# Altium integrated library Linear Technology PMIC-Switching Reg LT1074-LT8705.IntLib: 2252 symbols (part 28 of 124)
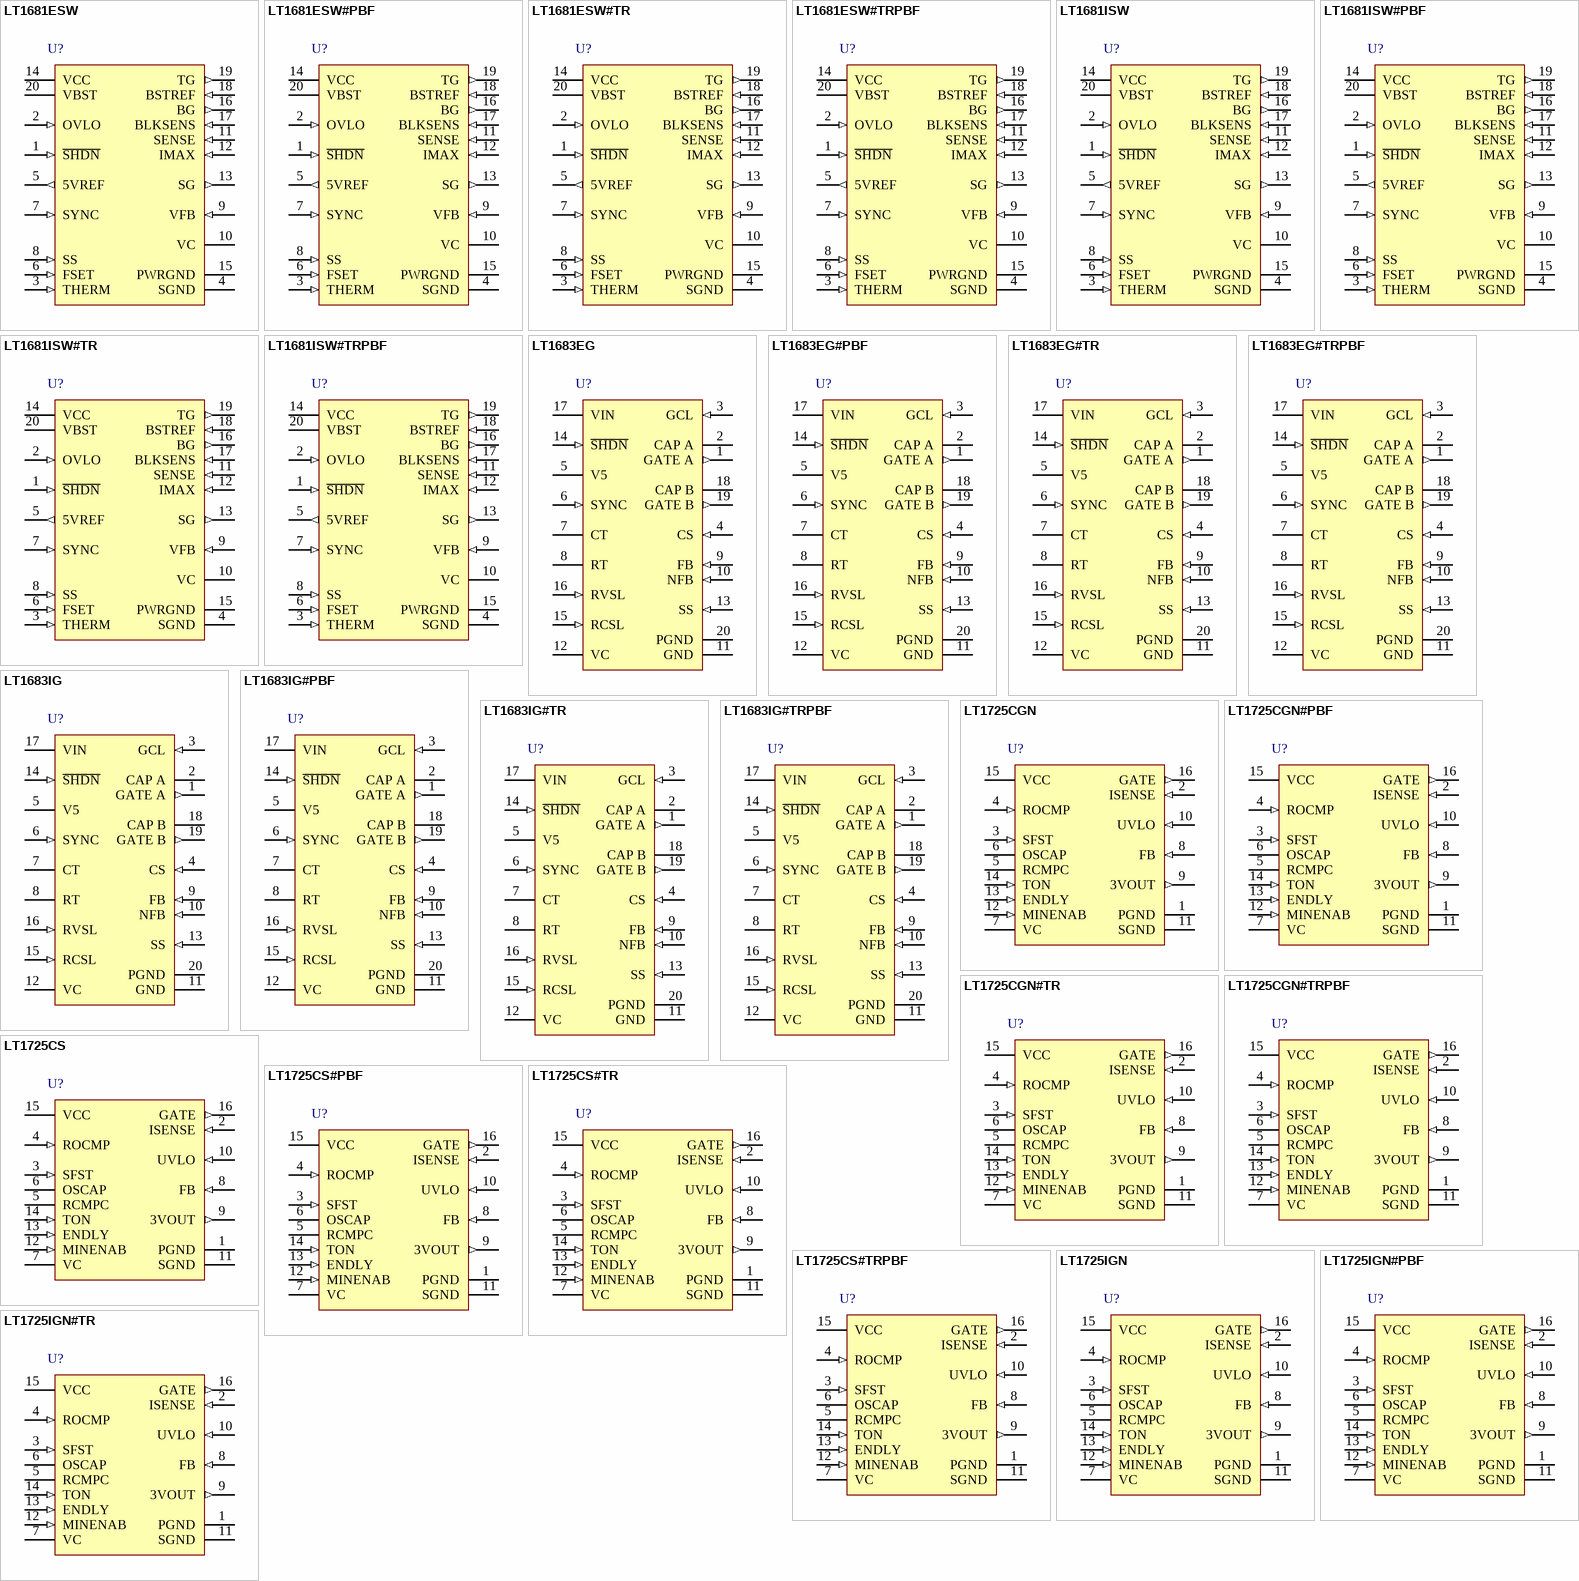
[diagram p98: symbols LT1681ESW to LT1725IGN#TR]

## LT1681ESW#PBF
designator U?
Dual Transistor Synchronous Forward Controller, 20-pin SOIC (SW-20), -40 to 85 degC, Pb-Free; Manufacturer: Linear Technology; PartNumber: LT1681ESW#PBF; Number of Outputs: 1; PackageReference: SW-20; PackageDescription: 20-Pin Plastic Small Outline, Body 12.80 x 7.49 mm, Pitch 1.27 mm; Supplier 1: Digi-Key; Supplier Part Number 1: LT1681ESW#PBF-ND; RoHS: TRUE
footprint LT-SW-20_N (SOIC, 20-Leads, Body 12.8x7.49mm, Pitch 1.27mm, IPC Medium Density)
footprint LT-SW-20_L (SOIC, 20-Leads, Body 12.8x7.49mm, Pitch 1.27mm, IPC High Density)
footprint LT-SW-20_M (SOIC, 20-Leads, Body 12.8x7.49mm, Pitch 1.27mm, IPC Low Density)
pins: 1 ~{SHDN} (in) "Shutdown Pin. Pin voltages exceeding positive-going threshold of 1.25V enables the LT1681. 150mV of input hysteresis resists mode switching instability. The S\H\D\N\ pin can be controlled by either a logic-level input or (See Datasheet)", 2 OVLO (in) "Overvoltage Shutdown Sense. Typically connected to input supply through a resistor divider. If pin voltage exceeds 1.25V, the LT1681 switching function is disabled to protect boosted circuitry from exceeding absolute maximum (See Datasheet)", 3 THERM (in) "System Thermal Shutdown. Auxiliary shutdown pin that is typically used for system thermal protection. If pin voltage exceeds 1.25V, the LT1681 switching function is disabled. 40mV of input hysteresis resists mode switching (See Datasheet)", 4 SGND (power) "Signal Ground Reference. Careful board layout techniques must be used to prevent corruption of the signal ground reference. High current switching paths must be oriented on the converter ground plane such that currents (See Datasheet)", 5 5VREF (out) "5V Local Reference. Allows connection of external loads up to 20mA DC. Typically bypassed with 1uF ceramic capacitor to SGND. Reference output is current limit protected to a typical value of 45mA. If the load on the 5V (See Datasheet)", 6 FSET (in) "Oscillator Timing Pin. Connect a resistor (RFSET) from the 5VREF pin to this pin and a capacitor (CFSET) from this pin to ground.", 7 SYNC (in) "Oscillator Synchronization Input Pin with TTL-Level Compatible Input. The SYNC input signal (at the desired synchronized operating frequency) controls both the internal oscillator (running at twice the SYNC frequency) and (See Datasheet)", 8 SS (in) "Soft-Start. Connect a capacitor (CSS) from this pin to ground. The output voltage of the LT1681 error amplifier corresponds to the peak current sense amplifier output detected before resetting the switch outputs. The (See Datasheet)", 9 VFB (in) "Error Amplifier Inverting Input. Typically connected to a resistor divider from the output and compensation components to the VC pin. The VFB pin is the converter output voltage feedback node. Input bias current of ~50nA (See Datasheet)", 10 VC "Error Amplifier Output. The LT1681 error amplifier is a low impedance output inverting gain stage. The amplifier has ample current source capability to allow easy integration of isolation optocouplers that require bias (See Datasheet)", 11 SENSE (in) "Current Sense Amplifier (CSA) Noninverting Input. Current is monitored via a ground referenced current sense resistor, typically in series with the source of the bottom-side switch FET. Internal limit circuitry provides for (See Datasheet)", 12 IMAX (in) "Primary Current Runaway Protection. The IMAX pin is used to detect primary-side switch currents and shuts down the primary switches if a current runaway condition is detected. The IMAX function is not disabled during the (See Datasheet)", 13 SG (out) "Synchronous Switch Output Driver. This pin can be connected directly to the gate of the synchronous switch if small FETs are used (CGATE < 5000pF), however, the use of a gate drive buffer is recommended for peak efficiencies.(See Datasheet)", 14 VCC (power) "IC Local Power Supply Input. Bypass with a capacitor at least 10 times greater than C5VREF to PGND. The LT1681 incorporates undervoltage lockout that disables switching functions if VCC is below 8.4V. The LT1681 supports (See Datasheet)", 15 PWRGND (power) "Output Driver Ground Reference. Connect through low impedance trace to VIN decoupling capacitor.", 16 BG (out) "Bottom-Side Primary Switch/Forward Switch Output Driver. Pin can be connected directly to gate of primary bottom-side and forward switches if small FETs are used (CGATE total < 5000pF), however, the use of a gate drive (See Datasheet)", 17 BLKSENS (in) "Blanking Sense Input. The current sense function (via SENSE pin) is disabled while the BLKSENS pin is below 5V. BLKSENS is typically connected to the gate of the bottom-side primary switch MOSFET.", 18 BSTREF (in) "VBST Supply Reference. Typically connects to source of topside external power FET switch.", 19 TG (out) "Topside (Boosted) Primary Output Driver. Pin can be connected directly to gate of primary topside switch if small FETs are used (CGATE < 5000pF), however, the use of a gate drive buffer is recommended for peak efficiencies.", 20 VBST (power) "Topside Primary Driver Bootstrapped Supply. This ¡°boosted¡± supply rail is referenced to the BSTREF pin."

## LT1681ESW#TR
designator U?
Dual Transistor Synchronous Forward Controller, 20-pin SOIC (SW-20), -40 to 85 degC, Tape and Reel; Manufacturer: Linear Technology; PartNumber: LT1681ESW#TR; Number of Outputs: 1; PackageReference: SW-20; PackageDescription: 20-Pin Plastic Small Outline, Body 12.80 x 7.49 mm, Pitch 1.27 mm; Supplier 1: Digi-Key; Supplier Part Number 1: LT1681ESWTR-ND; RoHS: FALSE
footprint LT-SW-20_N (SOIC, 20-Leads, Body 12.8x7.49mm, Pitch 1.27mm, IPC Medium Density)
footprint LT-SW-20_L (SOIC, 20-Leads, Body 12.8x7.49mm, Pitch 1.27mm, IPC High Density)
footprint LT-SW-20_M (SOIC, 20-Leads, Body 12.8x7.49mm, Pitch 1.27mm, IPC Low Density)
pins: 1 ~{SHDN} (in) "Shutdown Pin. Pin voltages exceeding positive-going threshold of 1.25V enables the LT1681. 150mV of input hysteresis resists mode switching instability. The S\H\D\N\ pin can be controlled by either a logic-level input or (See Datasheet)", 2 OVLO (in) "Overvoltage Shutdown Sense. Typically connected to input supply through a resistor divider. If pin voltage exceeds 1.25V, the LT1681 switching function is disabled to protect boosted circuitry from exceeding absolute maximum (See Datasheet)", 3 THERM (in) "System Thermal Shutdown. Auxiliary shutdown pin that is typically used for system thermal protection. If pin voltage exceeds 1.25V, the LT1681 switching function is disabled. 40mV of input hysteresis resists mode switching (See Datasheet)", 4 SGND (power) "Signal Ground Reference. Careful board layout techniques must be used to prevent corruption of the signal ground reference. High current switching paths must be oriented on the converter ground plane such that currents (See Datasheet)", 5 5VREF (out) "5V Local Reference. Allows connection of external loads up to 20mA DC. Typically bypassed with 1uF ceramic capacitor to SGND. Reference output is current limit protected to a typical value of 45mA. If the load on the 5V (See Datasheet)", 6 FSET (in) "Oscillator Timing Pin. Connect a resistor (RFSET) from the 5VREF pin to this pin and a capacitor (CFSET) from this pin to ground.", 7 SYNC (in) "Oscillator Synchronization Input Pin with TTL-Level Compatible Input. The SYNC input signal (at the desired synchronized operating frequency) controls both the internal oscillator (running at twice the SYNC frequency) and (See Datasheet)", 8 SS (in) "Soft-Start. Connect a capacitor (CSS) from this pin to ground. The output voltage of the LT1681 error amplifier corresponds to the peak current sense amplifier output detected before resetting the switch outputs. The (See Datasheet)", 9 VFB (in) "Error Amplifier Inverting Input. Typically connected to a resistor divider from the output and compensation components to the VC pin. The VFB pin is the converter output voltage feedback node. Input bias current of ~50nA (See Datasheet)", 10 VC "Error Amplifier Output. The LT1681 error amplifier is a low impedance output inverting gain stage. The amplifier has ample current source capability to allow easy integration of isolation optocouplers that require bias (See Datasheet)", 11 SENSE (in) "Current Sense Amplifier (CSA) Noninverting Input. Current is monitored via a ground referenced current sense resistor, typically in series with the source of the bottom-side switch FET. Internal limit circuitry provides for (See Datasheet)", 12 IMAX (in) "Primary Current Runaway Protection. The IMAX pin is used to detect primary-side switch currents and shuts down the primary switches if a current runaway condition is detected. The IMAX function is not disabled during the (See Datasheet)", 13 SG (out) "Synchronous Switch Output Driver. This pin can be connected directly to the gate of the synchronous switch if small FETs are used (CGATE < 5000pF), however, the use of a gate drive buffer is recommended for peak efficiencies.(See Datasheet)", 14 VCC (power) "IC Local Power Supply Input. Bypass with a capacitor at least 10 times greater than C5VREF to PGND. The LT1681 incorporates undervoltage lockout that disables switching functions if VCC is below 8.4V. The LT1681 supports (See Datasheet)", 15 PWRGND (power) "Output Driver Ground Reference. Connect through low impedance trace to VIN decoupling capacitor.", 16 BG (out) "Bottom-Side Primary Switch/Forward Switch Output Driver. Pin can be connected directly to gate of primary bottom-side and forward switches if small FETs are used (CGATE total < 5000pF), however, the use of a gate drive (See Datasheet)", 17 BLKSENS (in) "Blanking Sense Input. The current sense function (via SENSE pin) is disabled while the BLKSENS pin is below 5V. BLKSENS is typically connected to the gate of the bottom-side primary switch MOSFET.", 18 BSTREF (in) "VBST Supply Reference. Typically connects to source of topside external power FET switch.", 19 TG (out) "Topside (Boosted) Primary Output Driver. Pin can be connected directly to gate of primary topside switch if small FETs are used (CGATE < 5000pF), however, the use of a gate drive buffer is recommended for peak efficiencies.", 20 VBST (power) "Topside Primary Driver Bootstrapped Supply. This ¡°boosted¡± supply rail is referenced to the BSTREF pin."

## LT1681ESW#TRPBF
designator U?
Dual Transistor Synchronous Forward Controller, 20-pin SOIC (SW-20), -40 to 85 degC, Pb-Free, Tape and Reel; Manufacturer: Linear Technology; PartNumber: LT1681ESW#TRPBF; Number of Outputs: 1; PackageReference: SW-20; PackageDescription: 20-Pin Plastic Small Outline, Body 12.80 x 7.49 mm, Pitch 1.27 mm; Supplier 1: Digi-Key; Supplier Part Number 1: LT1681ESW#TRPBF-ND; RoHS: TRUE
footprint LT-SW-20_N (SOIC, 20-Leads, Body 12.8x7.49mm, Pitch 1.27mm, IPC Medium Density)
footprint LT-SW-20_L (SOIC, 20-Leads, Body 12.8x7.49mm, Pitch 1.27mm, IPC High Density)
footprint LT-SW-20_M (SOIC, 20-Leads, Body 12.8x7.49mm, Pitch 1.27mm, IPC Low Density)
pins: 1 ~{SHDN} (in) "Shutdown Pin. Pin voltages exceeding positive-going threshold of 1.25V enables the LT1681. 150mV of input hysteresis resists mode switching instability. The S\H\D\N\ pin can be controlled by either a logic-level input or (See Datasheet)", 2 OVLO (in) "Overvoltage Shutdown Sense. Typically connected to input supply through a resistor divider. If pin voltage exceeds 1.25V, the LT1681 switching function is disabled to protect boosted circuitry from exceeding absolute maximum (See Datasheet)", 3 THERM (in) "System Thermal Shutdown. Auxiliary shutdown pin that is typically used for system thermal protection. If pin voltage exceeds 1.25V, the LT1681 switching function is disabled. 40mV of input hysteresis resists mode switching (See Datasheet)", 4 SGND (power) "Signal Ground Reference. Careful board layout techniques must be used to prevent corruption of the signal ground reference. High current switching paths must be oriented on the converter ground plane such that currents (See Datasheet)", 5 5VREF (out) "5V Local Reference. Allows connection of external loads up to 20mA DC. Typically bypassed with 1uF ceramic capacitor to SGND. Reference output is current limit protected to a typical value of 45mA. If the load on the 5V (See Datasheet)", 6 FSET (in) "Oscillator Timing Pin. Connect a resistor (RFSET) from the 5VREF pin to this pin and a capacitor (CFSET) from this pin to ground.", 7 SYNC (in) "Oscillator Synchronization Input Pin with TTL-Level Compatible Input. The SYNC input signal (at the desired synchronized operating frequency) controls both the internal oscillator (running at twice the SYNC frequency) and (See Datasheet)", 8 SS (in) "Soft-Start. Connect a capacitor (CSS) from this pin to ground. The output voltage of the LT1681 error amplifier corresponds to the peak current sense amplifier output detected before resetting the switch outputs. The (See Datasheet)", 9 VFB (in) "Error Amplifier Inverting Input. Typically connected to a resistor divider from the output and compensation components to the VC pin. The VFB pin is the converter output voltage feedback node. Input bias current of ~50nA (See Datasheet)", 10 VC "Error Amplifier Output. The LT1681 error amplifier is a low impedance output inverting gain stage. The amplifier has ample current source capability to allow easy integration of isolation optocouplers that require bias (See Datasheet)", 11 SENSE (in) "Current Sense Amplifier (CSA) Noninverting Input. Current is monitored via a ground referenced current sense resistor, typically in series with the source of the bottom-side switch FET. Internal limit circuitry provides for (See Datasheet)", 12 IMAX (in) "Primary Current Runaway Protection. The IMAX pin is used to detect primary-side switch currents and shuts down the primary switches if a current runaway condition is detected. The IMAX function is not disabled during the (See Datasheet)", 13 SG (out) "Synchronous Switch Output Driver. This pin can be connected directly to the gate of the synchronous switch if small FETs are used (CGATE < 5000pF), however, the use of a gate drive buffer is recommended for peak efficiencies.(See Datasheet)", 14 VCC (power) "IC Local Power Supply Input. Bypass with a capacitor at least 10 times greater than C5VREF to PGND. The LT1681 incorporates undervoltage lockout that disables switching functions if VCC is below 8.4V. The LT1681 supports (See Datasheet)", 15 PWRGND (power) "Output Driver Ground Reference. Connect through low impedance trace to VIN decoupling capacitor.", 16 BG (out) "Bottom-Side Primary Switch/Forward Switch Output Driver. Pin can be connected directly to gate of primary bottom-side and forward switches if small FETs are used (CGATE total < 5000pF), however, the use of a gate drive (See Datasheet)", 17 BLKSENS (in) "Blanking Sense Input. The current sense function (via SENSE pin) is disabled while the BLKSENS pin is below 5V. BLKSENS is typically connected to the gate of the bottom-side primary switch MOSFET.", 18 BSTREF (in) "VBST Supply Reference. Typically connects to source of topside external power FET switch.", 19 TG (out) "Topside (Boosted) Primary Output Driver. Pin can be connected directly to gate of primary topside switch if small FETs are used (CGATE < 5000pF), however, the use of a gate drive buffer is recommended for peak efficiencies.", 20 VBST (power) "Topside Primary Driver Bootstrapped Supply. This ¡°boosted¡± supply rail is referenced to the BSTREF pin."

## LT1681ISW
designator U?
Dual Transistor Synchronous Forward Controller, 20-pin SOIC (SW-20), -40 to 85 degC; Manufacturer: Linear Technology; PartNumber: LT1681ISW; Number of Outputs: 1; PackageReference: SW-20; PackageDescription: 20-Pin Plastic Small Outline, Body 12.80 x 7.49 mm, Pitch 1.27 mm; Supplier 1: Digi-Key; Supplier Part Number 1: LT1681ISW-ND; RoHS: FALSE
footprint LT-SW-20_N (SOIC, 20-Leads, Body 12.8x7.49mm, Pitch 1.27mm, IPC Medium Density)
footprint LT-SW-20_L (SOIC, 20-Leads, Body 12.8x7.49mm, Pitch 1.27mm, IPC High Density)
footprint LT-SW-20_M (SOIC, 20-Leads, Body 12.8x7.49mm, Pitch 1.27mm, IPC Low Density)
pins: 1 ~{SHDN} (in) "Shutdown Pin. Pin voltages exceeding positive-going threshold of 1.25V enables the LT1681. 150mV of input hysteresis resists mode switching instability. The S\H\D\N\ pin can be controlled by either a logic-level input or (See Datasheet)", 2 OVLO (in) "Overvoltage Shutdown Sense. Typically connected to input supply through a resistor divider. If pin voltage exceeds 1.25V, the LT1681 switching function is disabled to protect boosted circuitry from exceeding absolute maximum (See Datasheet)", 3 THERM (in) "System Thermal Shutdown. Auxiliary shutdown pin that is typically used for system thermal protection. If pin voltage exceeds 1.25V, the LT1681 switching function is disabled. 40mV of input hysteresis resists mode switching (See Datasheet)", 4 SGND (power) "Signal Ground Reference. Careful board layout techniques must be used to prevent corruption of the signal ground reference. High current switching paths must be oriented on the converter ground plane such that currents (See Datasheet)", 5 5VREF (out) "5V Local Reference. Allows connection of external loads up to 20mA DC. Typically bypassed with 1uF ceramic capacitor to SGND. Reference output is current limit protected to a typical value of 45mA. If the load on the 5V (See Datasheet)", 6 FSET (in) "Oscillator Timing Pin. Connect a resistor (RFSET) from the 5VREF pin to this pin and a capacitor (CFSET) from this pin to ground.", 7 SYNC (in) "Oscillator Synchronization Input Pin with TTL-Level Compatible Input. The SYNC input signal (at the desired synchronized operating frequency) controls both the internal oscillator (running at twice the SYNC frequency) and (See Datasheet)", 8 SS (in) "Soft-Start. Connect a capacitor (CSS) from this pin to ground. The output voltage of the LT1681 error amplifier corresponds to the peak current sense amplifier output detected before resetting the switch outputs. The (See Datasheet)", 9 VFB (in) "Error Amplifier Inverting Input. Typically connected to a resistor divider from the output and compensation components to the VC pin. The VFB pin is the converter output voltage feedback node. Input bias current of ~50nA (See Datasheet)", 10 VC "Error Amplifier Output. The LT1681 error amplifier is a low impedance output inverting gain stage. The amplifier has ample current source capability to allow easy integration of isolation optocouplers that require bias (See Datasheet)", 11 SENSE (in) "Current Sense Amplifier (CSA) Noninverting Input. Current is monitored via a ground referenced current sense resistor, typically in series with the source of the bottom-side switch FET. Internal limit circuitry provides for (See Datasheet)", 12 IMAX (in) "Primary Current Runaway Protection. The IMAX pin is used to detect primary-side switch currents and shuts down the primary switches if a current runaway condition is detected. The IMAX function is not disabled during the (See Datasheet)", 13 SG (out) "Synchronous Switch Output Driver. This pin can be connected directly to the gate of the synchronous switch if small FETs are used (CGATE < 5000pF), however, the use of a gate drive buffer is recommended for peak efficiencies.(See Datasheet)", 14 VCC (power) "IC Local Power Supply Input. Bypass with a capacitor at least 10 times greater than C5VREF to PGND. The LT1681 incorporates undervoltage lockout that disables switching functions if VCC is below 8.4V. The LT1681 supports (See Datasheet)", 15 PWRGND (power) "Output Driver Ground Reference. Connect through low impedance trace to VIN decoupling capacitor.", 16 BG (out) "Bottom-Side Primary Switch/Forward Switch Output Driver. Pin can be connected directly to gate of primary bottom-side and forward switches if small FETs are used (CGATE total < 5000pF), however, the use of a gate drive (See Datasheet)", 17 BLKSENS (in) "Blanking Sense Input. The current sense function (via SENSE pin) is disabled while the BLKSENS pin is below 5V. BLKSENS is typically connected to the gate of the bottom-side primary switch MOSFET.", 18 BSTREF (in) "VBST Supply Reference. Typically connects to source of topside external power FET switch.", 19 TG (out) "Topside (Boosted) Primary Output Driver. Pin can be connected directly to gate of primary topside switch if small FETs are used (CGATE < 5000pF), however, the use of a gate drive buffer is recommended for peak efficiencies.", 20 VBST (power) "Topside Primary Driver Bootstrapped Supply. This ¡°boosted¡± supply rail is referenced to the BSTREF pin."

## LT1681ISW#PBF
designator U?
Dual Transistor Synchronous Forward Controller, 20-pin SOIC (SW-20), -40 to 85 degC, Pb-Free; Manufacturer: Linear Technology; PartNumber: LT1681ISW#PBF; Number of Outputs: 1; PackageReference: SW-20; PackageDescription: 20-Pin Plastic Small Outline, Body 12.80 x 7.49 mm, Pitch 1.27 mm; Supplier 1: Digi-Key; Supplier Part Number 1: LT1681ISW#PBF-ND; RoHS: TRUE
footprint LT-SW-20_N (SOIC, 20-Leads, Body 12.8x7.49mm, Pitch 1.27mm, IPC Medium Density)
footprint LT-SW-20_L (SOIC, 20-Leads, Body 12.8x7.49mm, Pitch 1.27mm, IPC High Density)
footprint LT-SW-20_M (SOIC, 20-Leads, Body 12.8x7.49mm, Pitch 1.27mm, IPC Low Density)
pins: 1 ~{SHDN} (in) "Shutdown Pin. Pin voltages exceeding positive-going threshold of 1.25V enables the LT1681. 150mV of input hysteresis resists mode switching instability. The S\H\D\N\ pin can be controlled by either a logic-level input or (See Datasheet)", 2 OVLO (in) "Overvoltage Shutdown Sense. Typically connected to input supply through a resistor divider. If pin voltage exceeds 1.25V, the LT1681 switching function is disabled to protect boosted circuitry from exceeding absolute maximum (See Datasheet)", 3 THERM (in) "System Thermal Shutdown. Auxiliary shutdown pin that is typically used for system thermal protection. If pin voltage exceeds 1.25V, the LT1681 switching function is disabled. 40mV of input hysteresis resists mode switching (See Datasheet)", 4 SGND (power) "Signal Ground Reference. Careful board layout techniques must be used to prevent corruption of the signal ground reference. High current switching paths must be oriented on the converter ground plane such that currents (See Datasheet)", 5 5VREF (out) "5V Local Reference. Allows connection of external loads up to 20mA DC. Typically bypassed with 1uF ceramic capacitor to SGND. Reference output is current limit protected to a typical value of 45mA. If the load on the 5V (See Datasheet)", 6 FSET (in) "Oscillator Timing Pin. Connect a resistor (RFSET) from the 5VREF pin to this pin and a capacitor (CFSET) from this pin to ground.", 7 SYNC (in) "Oscillator Synchronization Input Pin with TTL-Level Compatible Input. The SYNC input signal (at the desired synchronized operating frequency) controls both the internal oscillator (running at twice the SYNC frequency) and (See Datasheet)", 8 SS (in) "Soft-Start. Connect a capacitor (CSS) from this pin to ground. The output voltage of the LT1681 error amplifier corresponds to the peak current sense amplifier output detected before resetting the switch outputs. The (See Datasheet)", 9 VFB (in) "Error Amplifier Inverting Input. Typically connected to a resistor divider from the output and compensation components to the VC pin. The VFB pin is the converter output voltage feedback node. Input bias current of ~50nA (See Datasheet)", 10 VC "Error Amplifier Output. The LT1681 error amplifier is a low impedance output inverting gain stage. The amplifier has ample current source capability to allow easy integration of isolation optocouplers that require bias (See Datasheet)", 11 SENSE (in) "Current Sense Amplifier (CSA) Noninverting Input. Current is monitored via a ground referenced current sense resistor, typically in series with the source of the bottom-side switch FET. Internal limit circuitry provides for (See Datasheet)", 12 IMAX (in) "Primary Current Runaway Protection. The IMAX pin is used to detect primary-side switch currents and shuts down the primary switches if a current runaway condition is detected. The IMAX function is not disabled during the (See Datasheet)", 13 SG (out) "Synchronous Switch Output Driver. This pin can be connected directly to the gate of the synchronous switch if small FETs are used (CGATE < 5000pF), however, the use of a gate drive buffer is recommended for peak efficiencies.(See Datasheet)", 14 VCC (power) "IC Local Power Supply Input. Bypass with a capacitor at least 10 times greater than C5VREF to PGND. The LT1681 incorporates undervoltage lockout that disables switching functions if VCC is below 8.4V. The LT1681 supports (See Datasheet)", 15 PWRGND (power) "Output Driver Ground Reference. Connect through low impedance trace to VIN decoupling capacitor.", 16 BG (out) "Bottom-Side Primary Switch/Forward Switch Output Driver. Pin can be connected directly to gate of primary bottom-side and forward switches if small FETs are used (CGATE total < 5000pF), however, the use of a gate drive (See Datasheet)", 17 BLKSENS (in) "Blanking Sense Input. The current sense function (via SENSE pin) is disabled while the BLKSENS pin is below 5V. BLKSENS is typically connected to the gate of the bottom-side primary switch MOSFET.", 18 BSTREF (in) "VBST Supply Reference. Typically connects to source of topside external power FET switch.", 19 TG (out) "Topside (Boosted) Primary Output Driver. Pin can be connected directly to gate of primary topside switch if small FETs are used (CGATE < 5000pF), however, the use of a gate drive buffer is recommended for peak efficiencies.", 20 VBST (power) "Topside Primary Driver Bootstrapped Supply. This ¡°boosted¡± supply rail is referenced to the BSTREF pin."

## LT1681ISW#TR
designator U?
Dual Transistor Synchronous Forward Controller, 20-pin SOIC (SW-20), -40 to 85 degC, Tape and Reel; Manufacturer: Linear Technology; PartNumber: LT1681ISW#TR; Number of Outputs: 1; PackageReference: SW-20; PackageDescription: 20-Pin Plastic Small Outline, Body 12.80 x 7.49 mm, Pitch 1.27 mm; Supplier 1: Digi-Key; Supplier Part Number 1: LT1681ISWTR-ND; RoHS: FALSE
footprint LT-SW-20_N (SOIC, 20-Leads, Body 12.8x7.49mm, Pitch 1.27mm, IPC Medium Density)
footprint LT-SW-20_L (SOIC, 20-Leads, Body 12.8x7.49mm, Pitch 1.27mm, IPC High Density)
footprint LT-SW-20_M (SOIC, 20-Leads, Body 12.8x7.49mm, Pitch 1.27mm, IPC Low Density)
pins: 1 ~{SHDN} (in) "Shutdown Pin. Pin voltages exceeding positive-going threshold of 1.25V enables the LT1681. 150mV of input hysteresis resists mode switching instability. The S\H\D\N\ pin can be controlled by either a logic-level input or (See Datasheet)", 2 OVLO (in) "Overvoltage Shutdown Sense. Typically connected to input supply through a resistor divider. If pin voltage exceeds 1.25V, the LT1681 switching function is disabled to protect boosted circuitry from exceeding absolute maximum (See Datasheet)", 3 THERM (in) "System Thermal Shutdown. Auxiliary shutdown pin that is typically used for system thermal protection. If pin voltage exceeds 1.25V, the LT1681 switching function is disabled. 40mV of input hysteresis resists mode switching (See Datasheet)", 4 SGND (power) "Signal Ground Reference. Careful board layout techniques must be used to prevent corruption of the signal ground reference. High current switching paths must be oriented on the converter ground plane such that currents (See Datasheet)", 5 5VREF (out) "5V Local Reference. Allows connection of external loads up to 20mA DC. Typically bypassed with 1uF ceramic capacitor to SGND. Reference output is current limit protected to a typical value of 45mA. If the load on the 5V (See Datasheet)", 6 FSET (in) "Oscillator Timing Pin. Connect a resistor (RFSET) from the 5VREF pin to this pin and a capacitor (CFSET) from this pin to ground.", 7 SYNC (in) "Oscillator Synchronization Input Pin with TTL-Level Compatible Input. The SYNC input signal (at the desired synchronized operating frequency) controls both the internal oscillator (running at twice the SYNC frequency) and (See Datasheet)", 8 SS (in) "Soft-Start. Connect a capacitor (CSS) from this pin to ground. The output voltage of the LT1681 error amplifier corresponds to the peak current sense amplifier output detected before resetting the switch outputs. The (See Datasheet)", 9 VFB (in) "Error Amplifier Inverting Input. Typically connected to a resistor divider from the output and compensation components to the VC pin. The VFB pin is the converter output voltage feedback node. Input bias current of ~50nA (See Datasheet)", 10 VC "Error Amplifier Output. The LT1681 error amplifier is a low impedance output inverting gain stage. The amplifier has ample current source capability to allow easy integration of isolation optocouplers that require bias (See Datasheet)", 11 SENSE (in) "Current Sense Amplifier (CSA) Noninverting Input. Current is monitored via a ground referenced current sense resistor, typically in series with the source of the bottom-side switch FET. Internal limit circuitry provides for (See Datasheet)", 12 IMAX (in) "Primary Current Runaway Protection. The IMAX pin is used to detect primary-side switch currents and shuts down the primary switches if a current runaway condition is detected. The IMAX function is not disabled during the (See Datasheet)", 13 SG (out) "Synchronous Switch Output Driver. This pin can be connected directly to the gate of the synchronous switch if small FETs are used (CGATE < 5000pF), however, the use of a gate drive buffer is recommended for peak efficiencies.(See Datasheet)", 14 VCC (power) "IC Local Power Supply Input. Bypass with a capacitor at least 10 times greater than C5VREF to PGND. The LT1681 incorporates undervoltage lockout that disables switching functions if VCC is below 8.4V. The LT1681 supports (See Datasheet)", 15 PWRGND (power) "Output Driver Ground Reference. Connect through low impedance trace to VIN decoupling capacitor.", 16 BG (out) "Bottom-Side Primary Switch/Forward Switch Output Driver. Pin can be connected directly to gate of primary bottom-side and forward switches if small FETs are used (CGATE total < 5000pF), however, the use of a gate drive (See Datasheet)", 17 BLKSENS (in) "Blanking Sense Input. The current sense function (via SENSE pin) is disabled while the BLKSENS pin is below 5V. BLKSENS is typically connected to the gate of the bottom-side primary switch MOSFET.", 18 BSTREF (in) "VBST Supply Reference. Typically connects to source of topside external power FET switch.", 19 TG (out) "Topside (Boosted) Primary Output Driver. Pin can be connected directly to gate of primary topside switch if small FETs are used (CGATE < 5000pF), however, the use of a gate drive buffer is recommended for peak efficiencies.", 20 VBST (power) "Topside Primary Driver Bootstrapped Supply. This ¡°boosted¡± supply rail is referenced to the BSTREF pin."

## LT1681ISW#TRPBF
designator U?
Dual Transistor Synchronous Forward Controller, 20-pin SOIC (SW-20), -40 to 85 degC, Pb-Free, Tape and Reel; Manufacturer: Linear Technology; PartNumber: LT1681ISW#TRPBF; Number of Outputs: 1; PackageReference: SW-20; PackageDescription: 20-Pin Plastic Small Outline, Body 12.80 x 7.49 mm, Pitch 1.27 mm; Supplier 1: Digi-Key; Supplier Part Number 1: LT1681ISW#TRPBF-ND; RoHS: TRUE
footprint LT-SW-20_N (SOIC, 20-Leads, Body 12.8x7.49mm, Pitch 1.27mm, IPC Medium Density)
footprint LT-SW-20_L (SOIC, 20-Leads, Body 12.8x7.49mm, Pitch 1.27mm, IPC High Density)
footprint LT-SW-20_M (SOIC, 20-Leads, Body 12.8x7.49mm, Pitch 1.27mm, IPC Low Density)
pins: 1 ~{SHDN} (in) "Shutdown Pin. Pin voltages exceeding positive-going threshold of 1.25V enables the LT1681. 150mV of input hysteresis resists mode switching instability. The S\H\D\N\ pin can be controlled by either a logic-level input or (See Datasheet)", 2 OVLO (in) "Overvoltage Shutdown Sense. Typically connected to input supply through a resistor divider. If pin voltage exceeds 1.25V, the LT1681 switching function is disabled to protect boosted circuitry from exceeding absolute maximum (See Datasheet)", 3 THERM (in) "System Thermal Shutdown. Auxiliary shutdown pin that is typically used for system thermal protection. If pin voltage exceeds 1.25V, the LT1681 switching function is disabled. 40mV of input hysteresis resists mode switching (See Datasheet)", 4 SGND (power) "Signal Ground Reference. Careful board layout techniques must be used to prevent corruption of the signal ground reference. High current switching paths must be oriented on the converter ground plane such that currents (See Datasheet)", 5 5VREF (out) "5V Local Reference. Allows connection of external loads up to 20mA DC. Typically bypassed with 1uF ceramic capacitor to SGND. Reference output is current limit protected to a typical value of 45mA. If the load on the 5V (See Datasheet)", 6 FSET (in) "Oscillator Timing Pin. Connect a resistor (RFSET) from the 5VREF pin to this pin and a capacitor (CFSET) from this pin to ground.", 7 SYNC (in) "Oscillator Synchronization Input Pin with TTL-Level Compatible Input. The SYNC input signal (at the desired synchronized operating frequency) controls both the internal oscillator (running at twice the SYNC frequency) and (See Datasheet)", 8 SS (in) "Soft-Start. Connect a capacitor (CSS) from this pin to ground. The output voltage of the LT1681 error amplifier corresponds to the peak current sense amplifier output detected before resetting the switch outputs. The (See Datasheet)", 9 VFB (in) "Error Amplifier Inverting Input. Typically connected to a resistor divider from the output and compensation components to the VC pin. The VFB pin is the converter output voltage feedback node. Input bias current of ~50nA (See Datasheet)", 10 VC "Error Amplifier Output. The LT1681 error amplifier is a low impedance output inverting gain stage. The amplifier has ample current source capability to allow easy integration of isolation optocouplers that require bias (See Datasheet)", 11 SENSE (in) "Current Sense Amplifier (CSA) Noninverting Input. Current is monitored via a ground referenced current sense resistor, typically in series with the source of the bottom-side switch FET. Internal limit circuitry provides for (See Datasheet)", 12 IMAX (in) "Primary Current Runaway Protection. The IMAX pin is used to detect primary-side switch currents and shuts down the primary switches if a current runaway condition is detected. The IMAX function is not disabled during the (See Datasheet)", 13 SG (out) "Synchronous Switch Output Driver. This pin can be connected directly to the gate of the synchronous switch if small FETs are used (CGATE < 5000pF), however, the use of a gate drive buffer is recommended for peak efficiencies.(See Datasheet)", 14 VCC (power) "IC Local Power Supply Input. Bypass with a capacitor at least 10 times greater than C5VREF to PGND. The LT1681 incorporates undervoltage lockout that disables switching functions if VCC is below 8.4V. The LT1681 supports (See Datasheet)", 15 PWRGND (power) "Output Driver Ground Reference. Connect through low impedance trace to VIN decoupling capacitor.", 16 BG (out) "Bottom-Side Primary Switch/Forward Switch Output Driver. Pin can be connected directly to gate of primary bottom-side and forward switches if small FETs are used (CGATE total < 5000pF), however, the use of a gate drive (See Datasheet)", 17 BLKSENS (in) "Blanking Sense Input. The current sense function (via SENSE pin) is disabled while the BLKSENS pin is below 5V. BLKSENS is typically connected to the gate of the bottom-side primary switch MOSFET.", 18 BSTREF (in) "VBST Supply Reference. Typically connects to source of topside external power FET switch.", 19 TG (out) "Topside (Boosted) Primary Output Driver. Pin can be connected directly to gate of primary topside switch if small FETs are used (CGATE < 5000pF), however, the use of a gate drive buffer is recommended for peak efficiencies.", 20 VBST (power) "Topside Primary Driver Bootstrapped Supply. This ¡°boosted¡± supply rail is referenced to the BSTREF pin."

## LT1683EG
designator U?
Slew Rate Controlled Ultralow Noise Push-Pull DC/DC Controller, 20-pin SOP (G-20), -40 to 125 degC; Manufacturer: Linear Technology; PartNumber: LT1683EG; Number of Outputs: 1; PackageReference: G-20; PackageDescription: 20-Pin Plastic SSOP, Body 7.2 x 5.3 mm, Pitch 0.65 mm; Supplier 1: Digi-Key; Supplier Part Number 1: LT1683EG-ND; RoHS: FALSE
footprint LT-G-20_N (SOP, 20-Leads, Body 7.2x5.3mm, Pitch 0.65mm, IPC Medium Density)
footprint LT-G-20_L (SOP, 20-Leads, Body 7.2x5.3mm, Pitch 0.65mm, IPC High Density)
footprint LT-G-20_M (SOP, 20-Leads, Body 7.2x5.3mm, Pitch 0.65mm, IPC Low Density)
pins: 1 GATE A (out) "These pins connect to the gates of the external N-channel MOSFETs. GATE A and GATE B turn on with alternate clock cycles. These drivers are capable of sinking and sourcing at least 300mA. The GCL pin sets the upper voltage (See Datasheet)", 2 CAP A "These pins are the feedback nodes for the external voltage slewing capacitors. Normally a small 1pf to 5pf capacitor is connected from this pin to the drain of its respective MOSFET. The voltage slew rate is inversely (See Datasheet)", 3 GCL (in) "This pin sets the maximum gate voltage to the GATE A and GATE B pins to the MOSFET gate drives. This pin should be either tied to a Zener, a voltage source or VIN. If the pin is tied to a Zener or a voltage source, the (See Datasheet)", 4 CS (in) "This is the input to the current sense amplifier. It is used for both current mode control and current slewing of the external MOSFETs. Current sense is accomplished via a sense resistor (RS) connected from the sources of (See Datasheet)", 5 V5 (power) "This pin provides a 5V output that can sink or source 10mA for use by external components. V5 source current comes from VIN . Sink current goes to GND. VIN must be greater than 6.5V in order for this voltage to be in (See Datasheet)", 6 SYNC (in) "The SYNC pin can be used to synchronize the part to an external clock. The oscillator frequency should be set close to the external clock frequency. Synchronizing the clock to an external reference is useful for creating (See Datasheet)", 7 CT "The oscillator capacitor pin is used in conjunction with RT to set the oscillator frequency. For RT = 16.9k: COSC(nf) = 129/fOSC(kHz)", 8 RT "The oscillator resistor pin is used to set the charge and discharge currents of the oscillator capacitor. The nominal value is 16.9k. It is possible to adjust this resistance +/-25% to set oscillator frequency more (See Datasheet)", 9 FB (in) "The feedback pin is used for positive voltage sensing. It is the inverting input to the error amplifier. The noninverting input of this amplifier connects internally to a 1.25V reference. If the voltage on this pin exceeds (See Datasheet)", 10 NFB (in) "The negative feedback pin is used for sensing a negative output voltage. The pin is connected to the inverting input of the negative feedback amplifier through a 100k source resistor. The negative feedback amplifier provides (See Datasheet)", 11 GND (power) "Signal Ground. The internal error amplifier, negative feedback amplifier, oscillator, slew control circuitry, V5 regulator, current sense and the bandgap reference are referred to this ground. Keep the connection to this (See Datasheet)", 12 VC "The compensation pin is used for frequency compensation and current limiting. It is the output of the error amplifier and the input of the current comparator. Loop frequency compensation can be performed with an RC network (See Datasheet)", 13 SS (in) "The SS pin allows for ramping of the switch current threshold at startup. Normally a capacitor is placed on this pin to ground. An internal 9uA current source will charge this capacitor up. The voltage on the VC pin cannot (See Datasheet)", 14 ~{SHDN} (in) "The shutdown pin can disable the switcher. Grounding this pin will disable all internal circuitry. Increasing S\H\D\N\ voltage will initially turn on the internal bandgap regulator. This provides a precision threshold for (See Datasheet)", 15 RCSL (in) "A resistor to ground sets the current slew rate for the external drive MOSFETs during switching. The minimum resistor value is 3.3k and the maximum value is 68k. The time to slew between on and off states of the MOSFET (See Datasheet)", 16 RVSL (in) "A resistor to ground sets the voltage slew rate for the drains of the external drive MOSFETs. The minimum resistor value is 3.3k and the maximum value is 68k. The time to slew between on and off states on the MOSFET drain (See Datasheet)", 17 VIN (power) "Input Supply. All supply current for the part comes from this pin including gate drives and V5 regulator. Charge current for gate drives can produce current pulses of hundreds of milliamperes. Bypass this pin with a low ESR (See Datasheet)", 18 CAP B "These pins are the feedback nodes for the external voltage slewing capacitors. Normally a small 1pf to 5pf capacitor is connected from this pin to the drain of its respective MOSFET. The voltage slew rate is inversely (See Datasheet)", 19 GATE B (out) "These pins connect to the gates of the external N-channel MOSFETs. GATE A and GATE B turn on with alternate clock cycles. These drivers are capable of sinking and sourcing at least 300mA. The GCL pin sets the upper voltage (See Datasheet)", 20 PGND (power) "Power Driver Ground. This ground comes from the MOSFET gate drivers. This pin can have several hundred milliamperes of current on it when the external MOSFETs are being turned off."

## LT1683EG#PBF
designator U?
Slew Rate Controlled Ultralow Noise Push-Pull DC/DC Controller, 20-pin SOP (G-20), -40 to 125 degC, Pb-Free; Manufacturer: Linear Technology; PartNumber: LT1683EG#PBF; Number of Outputs: 1; PackageReference: G-20; PackageDescription: 20-Pin Plastic SSOP, Body 7.2 x 5.3 mm, Pitch 0.65 mm; Supplier 1: Digi-Key; Supplier Part Number 1: LT1683EG#PBF-ND; RoHS: TRUE
footprint LT-G-20_N (SOP, 20-Leads, Body 7.2x5.3mm, Pitch 0.65mm, IPC Medium Density)
footprint LT-G-20_L (SOP, 20-Leads, Body 7.2x5.3mm, Pitch 0.65mm, IPC High Density)
footprint LT-G-20_M (SOP, 20-Leads, Body 7.2x5.3mm, Pitch 0.65mm, IPC Low Density)
pins: 1 GATE A (out) "These pins connect to the gates of the external N-channel MOSFETs. GATE A and GATE B turn on with alternate clock cycles. These drivers are capable of sinking and sourcing at least 300mA. The GCL pin sets the upper voltage (See Datasheet)", 2 CAP A "These pins are the feedback nodes for the external voltage slewing capacitors. Normally a small 1pf to 5pf capacitor is connected from this pin to the drain of its respective MOSFET. The voltage slew rate is inversely (See Datasheet)", 3 GCL (in) "This pin sets the maximum gate voltage to the GATE A and GATE B pins to the MOSFET gate drives. This pin should be either tied to a Zener, a voltage source or VIN. If the pin is tied to a Zener or a voltage source, the (See Datasheet)", 4 CS (in) "This is the input to the current sense amplifier. It is used for both current mode control and current slewing of the external MOSFETs. Current sense is accomplished via a sense resistor (RS) connected from the sources of (See Datasheet)", 5 V5 (power) "This pin provides a 5V output that can sink or source 10mA for use by external components. V5 source current comes from VIN . Sink current goes to GND. VIN must be greater than 6.5V in order for this voltage to be in (See Datasheet)", 6 SYNC (in) "The SYNC pin can be used to synchronize the part to an external clock. The oscillator frequency should be set close to the external clock frequency. Synchronizing the clock to an external reference is useful for creating (See Datasheet)", 7 CT "The oscillator capacitor pin is used in conjunction with RT to set the oscillator frequency. For RT = 16.9k: COSC(nf) = 129/fOSC(kHz)", 8 RT "The oscillator resistor pin is used to set the charge and discharge currents of the oscillator capacitor. The nominal value is 16.9k. It is possible to adjust this resistance +/-25% to set oscillator frequency more (See Datasheet)", 9 FB (in) "The feedback pin is used for positive voltage sensing. It is the inverting input to the error amplifier. The noninverting input of this amplifier connects internally to a 1.25V reference. If the voltage on this pin exceeds (See Datasheet)", 10 NFB (in) "The negative feedback pin is used for sensing a negative output voltage. The pin is connected to the inverting input of the negative feedback amplifier through a 100k source resistor. The negative feedback amplifier provides (See Datasheet)", 11 GND (power) "Signal Ground. The internal error amplifier, negative feedback amplifier, oscillator, slew control circuitry, V5 regulator, current sense and the bandgap reference are referred to this ground. Keep the connection to this (See Datasheet)", 12 VC "The compensation pin is used for frequency compensation and current limiting. It is the output of the error amplifier and the input of the current comparator. Loop frequency compensation can be performed with an RC network (See Datasheet)", 13 SS (in) "The SS pin allows for ramping of the switch current threshold at startup. Normally a capacitor is placed on this pin to ground. An internal 9uA current source will charge this capacitor up. The voltage on the VC pin cannot (See Datasheet)", 14 ~{SHDN} (in) "The shutdown pin can disable the switcher. Grounding this pin will disable all internal circuitry. Increasing S\H\D\N\ voltage will initially turn on the internal bandgap regulator. This provides a precision threshold for (See Datasheet)", 15 RCSL (in) "A resistor to ground sets the current slew rate for the external drive MOSFETs during switching. The minimum resistor value is 3.3k and the maximum value is 68k. The time to slew between on and off states of the MOSFET (See Datasheet)", 16 RVSL (in) "A resistor to ground sets the voltage slew rate for the drains of the external drive MOSFETs. The minimum resistor value is 3.3k and the maximum value is 68k. The time to slew between on and off states on the MOSFET drain (See Datasheet)", 17 VIN (power) "Input Supply. All supply current for the part comes from this pin including gate drives and V5 regulator. Charge current for gate drives can produce current pulses of hundreds of milliamperes. Bypass this pin with a low ESR (See Datasheet)", 18 CAP B "These pins are the feedback nodes for the external voltage slewing capacitors. Normally a small 1pf to 5pf capacitor is connected from this pin to the drain of its respective MOSFET. The voltage slew rate is inversely (See Datasheet)", 19 GATE B (out) "These pins connect to the gates of the external N-channel MOSFETs. GATE A and GATE B turn on with alternate clock cycles. These drivers are capable of sinking and sourcing at least 300mA. The GCL pin sets the upper voltage (See Datasheet)", 20 PGND (power) "Power Driver Ground. This ground comes from the MOSFET gate drivers. This pin can have several hundred milliamperes of current on it when the external MOSFETs are being turned off."